# Altium schematic symbol library SCH - POWER - LINEAR VREG - TI TPS7A9001DSK.SchLib: 1 symbol
Pins are listed as number, name and electrical type; pins without a type are passive.

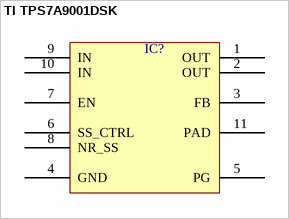
[diagram p0: symbol TI TPS7A9001DSK]

## TI TPS7A9001DSK
designator IC?  (value not drawn)
pins: 1 OUT, 2 OUT, 3 FB, 4 GND, 5 PG, 6 SS_CTRL, 7 EN, 8 NR_SS, 9 IN, 10 IN, 11 PAD